# EAGLE library part CLRC663 (library nxp_60)
NXP ISO14443 ISO15693 reader IC AAL Eindhoven MK
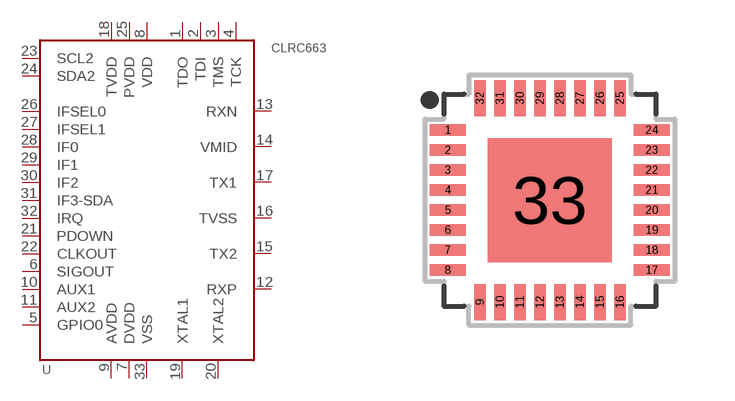
[diagram p5: symbol with the pads of SOT617-1; footprint SOT617-1]

Designator prefix U

## CLRC66301HN1  [SOT617-1]
1  TDO  out
2  TDI  in
3  TMS
4  TCK
5  GPIO0
6  SIGOUT  out
7  DVDD  pwr
8  VDD  pwr
9  AVDD  out
10  AUX1  out
11  AUX2  out
12  RXP  out
13  RXN  out
14  VMID  out
15  TX2  out
16  TVSS  pwr
17  TX1  out
18  TVDD  pwr
19  XTAL1  in
20  XTAL2  out
21  PDOWN  in
22  CLKOUT  out
23  SCL2
24  SDA2
25  PVDD  pwr
26  IFSEL0  in
27  IFSEL1  in
28  IF0
29  IF1
30  IF2
31  IF3-SDA
32  IRQ  out
33  VSS  pwr

## Footprint SOT617-1 (pad centres in mm)
SOT617-1 HVQFN32: plastic thermal enhanced very thin quad flat package; no leads; 32 terminals; body 5 x 5 x 0.85 mm JEDEC: MO-220 IEC: ---
smd 0.9 x 0.29: 1 -2.55,1.75; 2 -2.55,1.25; 3 -2.55,0.75; 4 -2.55,0.25; 5 -2.55,-0.25; 6 -2.55,-0.75; 7 -2.55,-1.25; 8 -2.55,-1.75; 17 2.55,-1.75; 18 2.55,-1.25; 19 2.55,-0.75; 20 2.55,-0.25; 21 2.55,0.25; 22 2.55,0.75; 23 2.55,1.25; 24 2.55,1.75
smd 0.29 x 0.9: 9 -1.75,-2.55; 10 -1.25,-2.55; 11 -0.75,-2.55; 12 -0.25,-2.55; 13 0.25,-2.55; 14 0.75,-2.55; 15 1.25,-2.55; 16 1.75,-2.55; 25 1.75,2.55; 26 1.25,2.55; 27 0.75,2.55; 28 0.25,2.55; 29 -0.25,2.55; 30 -0.75,2.55; 31 -1.25,2.55; 32 -1.75,2.55
smd 3.1 x 3.1: 33 0,0